# Altium schematic symbol library SCH - MCU - SI LABS - SI LABS EFM32HG350F64 36-PIN CSP 3X3.SchLib: 1 symbol
Pins are listed as number, name and electrical type; pins without a type are passive.

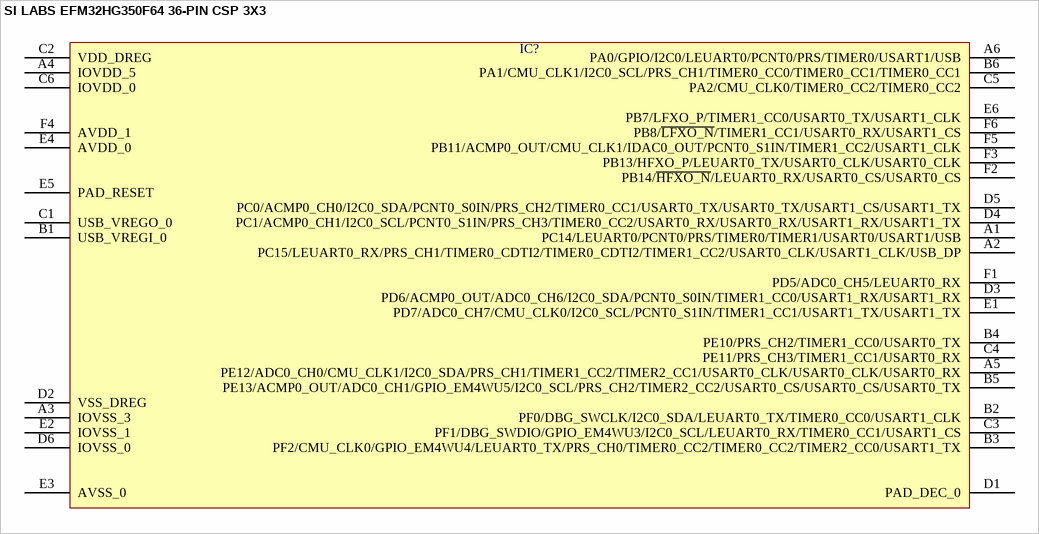
[diagram p0: symbol SI LABS EFM32HG350F64 36-PIN CSP 3X3]

## SI LABS EFM32HG350F64 36-PIN CSP 3X3
designator IC?  (value not drawn)
pins: A1 PC14/LEUART0/PCNT0/PRS/TIMER0/TIMER1/USART0/USART1/USB, A2 PC15/LEUART0_RX/PRS_CH1/TIMER0_CDTI2/TIMER0_CDTI2/TIMER1_CC2/USART0_CLK/USART1_CLK/USB_DP, A3 IOVSS_3, A4 IOVDD_5, A5 PE12/ADC0_CH0/CMU_CLK1/I2C0_SDA/PRS_CH1/TIMER1_CC2/TIMER2_CC1/USART0_CLK/USART0_CLK/USART0_RX, A6 PA0/GPIO/I2C0/LEUART0/PCNT0/PRS/TIMER0/USART1/USB, B1 USB_VREGI_0, B2 PF0/DBG_SWCLK/I2C0_SDA/LEUART0_TX/TIMER0_CC0/USART1_CLK, B3 PF2/CMU_CLK0/GPIO_EM4WU4/LEUART0_TX/PRS_CH0/TIMER0_CC2/TIMER0_CC2/TIMER2_CC0/USART1_TX, B4 PE10/PRS_CH2/TIMER1_CC0/USART0_TX, B5 PE13/ACMP0_OUT/ADC0_CH1/GPIO_EM4WU5/I2C0_SCL/PRS_CH2/TIMER2_CC2/USART0_CS/USART0_CS/USART0_TX, B6 PA1/CMU_CLK1/I2C0_SCL/PRS_CH1/TIMER0_CC0/TIMER0_CC1/TIMER0_CC1, C1 USB_VREGO_0, C2 VDD_DREG, C3 PF1/DBG_SWDIO/GPIO_EM4WU3/I2C0_SCL/LEUART0_RX/TIMER0_CC1/USART1_CS, C4 PE11/PRS_CH3/TIMER1_CC1/USART0_RX, C5 PA2/CMU_CLK0/TIMER0_CC2/TIMER0_CC2, C6 IOVDD_0, D1 PAD_DEC_0, D2 VSS_DREG, D3 PD6/ACMP0_OUT/ADC0_CH6/I2C0_SDA/PCNT0_S0IN/TIMER1_CC0/USART1_RX/USART1_RX, D4 PC1/ACMP0_CH1/I2C0_SCL/PCNT0_S1IN/PRS_CH3/TIMER0_CC2/USART0_RX/USART0_RX/USART1_RX/USART1_TX, D5 PC0/ACMP0_CH0/I2C0_SDA/PCNT0_S0IN/PRS_CH2/TIMER0_CC1/USART0_TX/USART0_TX/USART1_CS/USART1_TX, D6 IOVSS_0, E1 PD7/ADC0_CH7/CMU_CLK0/I2C0_SCL/PCNT0_S1IN/TIMER1_CC1/USART1_TX/USART1_TX, E2 IOVSS_1, E3 AVSS_0, E4 AVDD_0, E5 PAD_RESET, E6 PB7/LFXO_P/TIMER1_CC0/USART0_TX/USART1_CLK, F1 PD5/ADC0_CH5/LEUART0_RX, F2 PB14/~{HFXO_N}/LEUART0_RX/USART0_CS/USART0_CS, F3 PB13/HFXO_P/LEUART0_TX/USART0_CLK/USART0_CLK, F4 AVDD_1, F5 PB11/ACMP0_OUT/CMU_CLK1/IDAC0_OUT/PCNT0_S1IN/TIMER1_CC2/USART1_CLK, F6 PB8/~{LFXO_N}/TIMER1_CC1/USART0_RX/USART1_CS